# Altium footprint library added_pcb.PcbLib: 2 footprints
Each footprint in its own frame and in the unit in brackets; x right, y up, seen from the top. Pads: shape width x height; smd on the part's side, far side on the other; paste and mask are expansions set on the pad; w line width, h text height; cw(c..) or ccw(c..) is an arc to the next point about the centre after c.
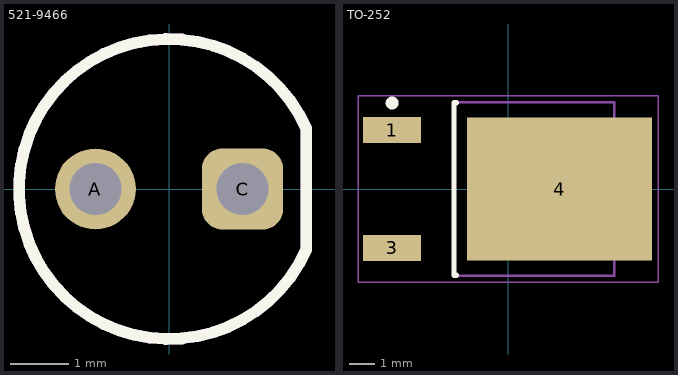
[diagram p0: the footprints below, top view; thin cyan lines are the x and y axes]

## 521-9466 [mm]
pads (2):
  round 1.4 hole 0.9: A(-1.27,0)
  rrect50% 1.4x1.4 hole 0.9: C(1.27,0)
Top Overlay:
  lines w0.2: 2.367,-1.052 cw(c0,0) 2.367,1.052 2.367,-1.052
Mechanical 1:
  lines w0.2: 2.367,-1.052 cw(c0,0) 2.367,1.052 2.367,-1.052
3D body "521-9466.step": height 10.71, standoff -0.6, extent -2.92,-2.92 2.415,2.92

## TO-252 [mm] "D-PAK, 3-Pads, Body 6,21x6,73mm (max), IPC Medium Density"
height 2.55
pads (3):
  rect 2.25x1 smd: 1(-4.5,2.29) 3(-4.5,-2.29)
  rect 7.2x5.55 smd: 4(2,0)
Top Overlay:
  circle w0.25: c-4.5,3.34 r0.125
  lines w0.2: -2,-3.35 -2.1,-3.35 -2.1,3.35 -2,3.35
Mechanical 13:
  lines w0.1: -2.1,-3.375 4.12,-3.375 4.12,3.375 -2.1,3.375 -2.1,-3.375
Mechanical 15:
  lines w0.05: -5.825,-3.625 5.825,-3.625 5.825,3.625 -5.825,3.625 -5.825,-3.625
  lines w0.1: -0.5,0 0.5,0 ; 0,-0.5 0,0.5
3D body "TO-252 v2.step": height 3.15, standoff 0, extent -4.35,-3.375 5.56,3.375